# Altium footprint library WL-SFTW.PcbLib: 6 footprints
Each footprint in its own frame and in the unit in brackets; x right, y up, seen from the top. Pads: shape width x height; smd on the part's side, far side on the other; paste and mask are expansions set on the pad; w line width, h text height; cw(c..) or ccw(c..) is an arc to the next point about the centre after c.
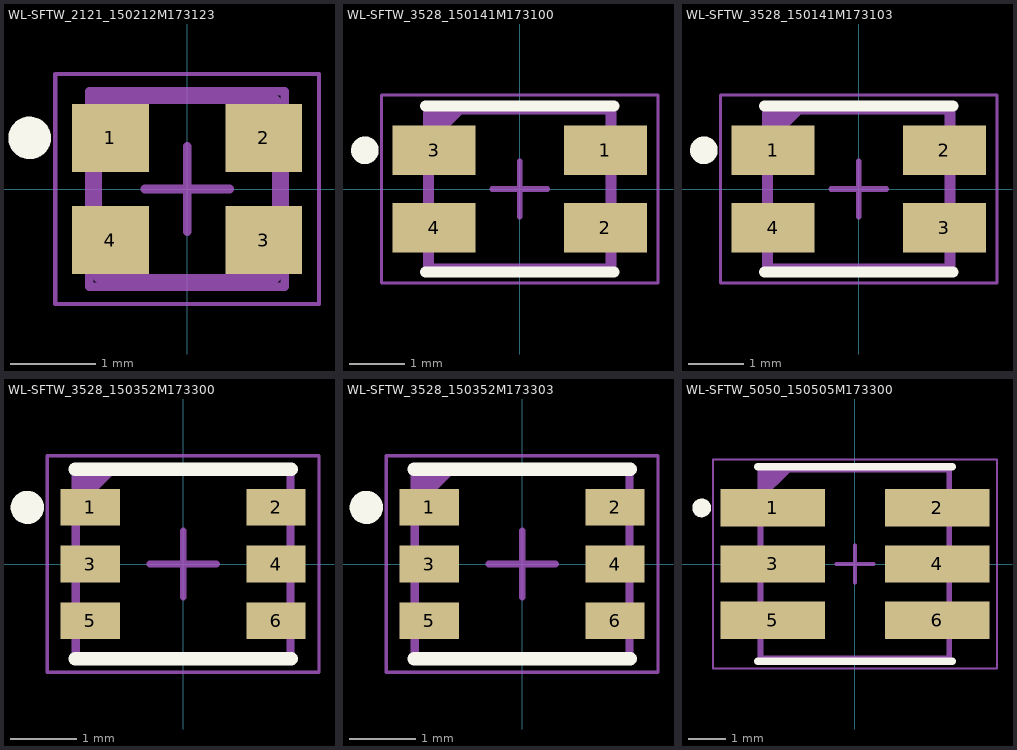
[diagram p0: the footprints below, top view; thin cyan lines are the x and y axes]

## WL-SFTW_2121_150212M173123 [mm] "SMT Full-color TOP LED Waterclear, body 2.1x2.1 mm"
height 1
pads (4):
  rect 0.9x0.8 smd: 1(-0.9,0.6) 2(0.9,0.6) 3(0.9,-0.6) 4(-0.9,-0.6)
Top Overlay:
  circle w0.25: c-1.85,0.6 r0.125
Top Assembly:
  region: -1.15,1.15 -0.55,1.15 -1.15,0.55
  lines w0.1: -1.15,-1.15 1.15,-1.15 1.15,1.15 -1.15,1.15 -1.15,-1.15
Top Designator:
  text ".Designator" at -3.647,-0.357 h1
Top 3D Body:
  region: -1.05,1.05 -0.45,1.05 -1.05,0.45
  lines w0.1: -1.05,-1.05 1.05,-1.05 1.05,1.05 -1.05,1.05 -1.05,-1.05
Top Courtyard:
  lines w0.05: -1.55,-1.35 1.55,-1.35 1.55,1.35 -1.55,1.35 -1.55,-1.35
Top Component Center:
  lines w0.1: -0.5,0 0.5,0 ; 0,-0.5 0,0.5
3D body "150212M173123.stp": height 1, standoff 0, extent -1.05,-1.05 1.05,1.05

## WL-SFTW_3528_150141M173100 [mm] "SMT Full-color TOP LED Waterclear, body 3.5x2.8mm"
height 2.1
pads (4):
  rect 1.5x0.9 smd: 1(1.55,0.7) 2(1.55,-0.7) 3(-1.55,0.7) 4(-1.55,-0.7)
Top Overlay:
  circle w0.25: c-2.8,0.7 r0.125
  lines w0.2: -1.7,-1.5 1.7,-1.5 ; -1.7,1.5 1.7,1.5
Top Assembly:
  region: -1.7,1.5 -1.1,1.5 -1.7,0.9
  lines w0.1: -1.7,-1.5 1.7,-1.5 1.7,1.5 -1.7,1.5 -1.7,-1.5
Top Designator:
  text ".Designator" at -3.647,-0.357 h1
Top 3D Body:
  region: -1.6,1.4 -1,1.4 -1.6,0.8
  lines w0.1: -1.6,-1.4 -1.6,1.4 1.6,1.4 1.6,-1.4 -1.6,-1.4
Top Courtyard:
  lines w0.05: -2.5,-1.7 2.5,-1.7 2.5,1.7 -2.5,1.7 -2.5,-1.7
Top Component Center:
  lines w0.1: -0.5,0 0.5,0 ; 0,-0.5 0,0.5
3D body "150141M173100.stp": height 1.9, standoff 0, extent -1.75,-1.4 1.75,1.4

## WL-SFTW_3528_150141M173103 [mm] "SMT Full-color TOP LED Waterclear, body 3.5x2.8mm"
height 1.9
pads (4):
  rect 1.5x0.9 smd: 1(-1.55,0.7) 2(1.55,0.7) 3(1.55,-0.7) 4(-1.55,-0.7)
Top Overlay:
  circle w0.25: c-2.8,0.7 r0.125
  lines w0.2: -1.7,-1.5 1.7,-1.5 ; -1.7,1.5 1.7,1.5
Top Assembly:
  region: -1.7,1.5 -1.1,1.5 -1.7,0.9
  lines w0.1: -1.7,-1.5 1.7,-1.5 1.7,1.5 -1.7,1.5 -1.7,-1.5
Top Designator:
  text ".Designator" at -3.647,-0.357 h1
Top 3D Body:
  region: -1.6,1.4 -1,1.4 -1.6,0.8
  lines w0.1: -1.6,-1.4 -1.6,1.4 1.6,1.4 1.6,-1.4 -1.6,-1.4
Top Courtyard:
  lines w0.05: -2.5,-1.7 2.5,-1.7 2.5,1.7 -2.5,1.7 -2.5,-1.7
Top Component Center:
  lines w0.1: -0.5,0 0.5,0 ; 0,-0.5 0,0.5
3D body "150141M173103.stp": height 1.9, standoff 0, extent -1.75,-1.4 1.75,1.4

## WL-SFTW_3528_150352M173300 [mm] "SMT Full-color TOP LED Waterclear, body 3.5x2.8mm"
height 1.85
pads (6):
  rect 0.89x0.55 smd: 1(-1.395,0.85) 2(1.395,0.85) 3(-1.395,0) 4(1.395,0) 5(-1.395,-0.85) 6(1.395,-0.85)
Top Overlay:
  circle w0.25: c-2.34,0.85 r0.125
  lines w0.2: -1.625,-1.425 1.625,-1.425 ; -1.625,1.425 1.625,1.425
Top Assembly:
  region: -1.625,1.425 -1.025,1.425 -1.625,0.825
  lines w0.1: -1.625,-1.425 -1.625,1.425 1.625,1.425 1.625,-1.425 -1.625,-1.425
Top Designator:
  text ".Designator" at -3.647,-0.357 h1
Top 3D Body:
  region: -1.6,1.4 -1,1.4 -1.6,0.8
  lines w0.1: -1.6,-1.4 1.6,-1.4 1.6,1.4 -1.6,1.4 -1.6,-1.4
Top Courtyard:
  lines w0.05: -2.04,-1.625 2.04,-1.625 2.04,1.625 -2.04,1.625 -2.04,-1.625
Top Component Center:
  lines w0.1: -0.5,0 0.5,0 ; 0,-0.5 0,0.5
3D body "150352M1xxx.stp": height 1.78, standoff -0.01, extent -1.751,-1.4 1.751,1.4

## WL-SFTW_3528_150352M173303 [mm] "SMT Full-color TOP LED Waterclear, body 3.5x2.8mm"
height 1.8
pads (6):
  rect 0.89x0.55 smd: 1(-1.395,0.85) 2(1.395,0.85) 3(-1.395,0) 4(1.395,0) 5(-1.395,-0.85) 6(1.395,-0.85)
Top Overlay:
  circle w0.25: c-2.34,0.85 r0.125
  lines w0.2: -1.625,-1.425 1.625,-1.425 ; -1.625,1.425 1.625,1.425
Top Assembly:
  region: -1.625,1.425 -1.025,1.425 -1.625,0.825
  lines w0.1: -1.625,-1.425 1.625,-1.425 1.625,1.425 -1.625,1.425 -1.625,-1.425
Top Designator:
  text ".Designator" at -3.647,-0.357 h1
Top 3D Body:
  region: -1.6,1.4 -1,1.4 -1.6,0.8
  lines w0.1: -1.6,-1.4 -1.6,1.4 1.6,1.4 1.6,-1.4 -1.6,-1.4
Top Courtyard:
  lines w0.05: -2.04,-1.625 -2.04,1.625 2.04,1.625 2.04,-1.625 -2.04,-1.625
Top Component Center:
  lines w0.1: -0.5,0 0.5,0 ; 0,-0.5 0,0.5
3D body "150352M1xxx.stp": height 1.78, standoff -0.01, extent -1.751,-1.4 1.751,1.4

## WL-SFTW_5050_150505M173300 [mm] "SMT Full-color TOP LED Waterclear, body 5x5mm"
height 1.8
pads (6):
  rect 2.8x1 smd: 1(-2.2,1.5) 2(2.2,1.5) 3(-2.2,0) 4(2.2,0) 5(-2.2,-1.5) 6(2.2,-1.5)
Top Overlay:
  circle w0.25: c-4.1,1.5 r0.125
  lines w0.2: -2.6,-2.6 2.6,-2.6 ; -2.6,2.6 2.6,2.6
Top Assembly:
  region: -2.55,2.55 -1.75,2.55 -2.55,1.75
  lines w0.1: -2.55,-2.55 -2.55,2.55 2.55,2.55 2.55,-2.55 -2.55,-2.55
Top Designator:
  text ".Designator" at -3.647,-0.357 h1
Top 3D Body:
  region: -2.5,2.5 -1.7,2.5 -2.5,1.7
  lines w0.1: -2.5,-2.5 2.5,-2.5 2.5,2.5 -2.5,2.5 -2.5,-2.5
Top Courtyard:
  lines w0.05: -3.8,-2.8 -3.8,2.8 3.8,2.8 3.8,-2.8 -3.8,-2.8
Top Component Center:
  lines w0.1: -0.5,0 0.5,0 ; 0,-0.5 0,0.5
3D body "150505M1xxx.stp": height 1.5, standoff 0.02, extent -2.7,-2.5 2.7,2.5